# Altium footprint library PTVS3V3S1UTR,115.PcbLib: 3 footprints
Each footprint in its own frame and in the unit in brackets; x right, y up, seen from the top. Pads: shape width x height; smd on the part's side, far side on the other; paste and mask are expansions set on the pad; w line width, h text height; cw(c..) or ccw(c..) is an arc to the next point about the centre after c.
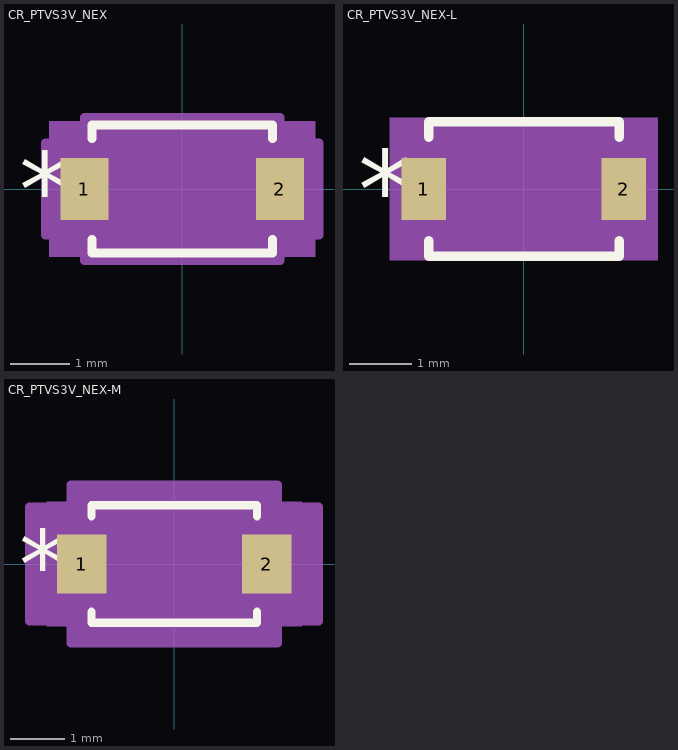
[diagram p0: the footprints below, top view; thin cyan lines are the x and y axes]

## CR_PTVS3V_NEX [mil]
pads (2):
  rect 32x41 smd paste+0 mask+0: 1(-65,0) 2(65,0)
Top Overlay:
  lines w6: -60,-33.6 -60,-42.5 60,-42.5 60,-33.6 ; -60,33.6 -60,42.5 60,42.5 60,33.6
  text "*" at -108.5,-25 h50
Mechanical 5:
  region: 88.5,-45 -88.5,-45 -88.5,45 88.5,45
Mechanical 13:
  lines w1: -55,-18.75 -36.25,-37.5 ; -55,18.75 -36.25,37.5 ; -73,-20.5 -73,20.5 -55,20.5 -55,-20.5 -73,-20.5 ; -55,-37.5 55,-37.5 55,37.5 -55,37.5 -55,-37.5 ; 55,-20.5 55,20.5 73,20.5 73,-20.5 55,-20.5
  text "*" at -57.5,-25 h50
Mechanical 15:
  region: -65,-30.5 -91,-30.5 -91,30.5 -65,30.5 -65,47.5 65,47.5 65,30.5 91,30.5 91,-30.5 65,-30.5 65,-47.5 -65,-47.5
  lines w6: -91,-30.5 -91,30.5 -65,30.5 -65,47.5 65,47.5 65,30.5 91,30.5 91,-30.5 65,-30.5 65,-47.5 -65,-47.5 -65,-30.5 -91,-30.5
3D body "CR_PTVS3V_NEX.step": height 43.27, standoff 0, extent -72.99,-37.48 72.99,37.48

## CR_PTVS3V_NEX-L [mil]
pads (2):
  rect 28x39 smd paste+0 mask+0: 1(-63,0) 2(63,0)
Top Overlay:
  lines w6: -60,-32.6 -60,-42.5 60,-42.5 60,-32.6 ; -60,32.6 -60,42.5 60,42.5 60,32.6
  text "*" at -104.5,-25 h50
Mechanical 5:
  region: 84.5,-45 -84.5,-45 -84.5,45 84.5,45
Mechanical 13:
  lines w1: -55,-18.75 -36.25,-37.5 ; -55,18.75 -36.25,37.5 ; -73,-20.5 -73,20.5 -55,20.5 -55,-20.5 -73,-20.5 ; -55,-37.5 55,-37.5 55,37.5 -55,37.5 -55,-37.5 ; 55,-20.5 55,20.5 73,20.5 73,-20.5 55,-20.5
  text "*" at -57.5,-25 h50
Mechanical 15:
  region: -59,-23.5 -81,-23.5 -81,23.5 -59,23.5 -59,41.5 59,41.5 59,23.5 81,23.5 81,-23.5 59,-23.5 59,-41.5 -59,-41.5
  lines w6: -81,-23.5 -81,23.5 -59,23.5 -59,41.5 59,41.5 59,23.5 81,23.5 81,-23.5 59,-23.5 59,-41.5 -59,-41.5 -59,-23.5 -81,-23.5
3D body "CR_PTVS3V_NEX.step": height 43.27, standoff 0, extent -72.99,-37.48 72.99,37.48

## CR_PTVS3V_NEX-M [mil]
pads (2):
  rect 36x43 smd paste+0 mask+0: 1(-67,0) 2(67,0)
Top Overlay:
  lines w6: -60,-34.6 -60,-42.5 60,-42.5 60,-34.6 ; -60,34.6 -60,42.5 60,42.5 60,34.6
  text "*" at -112.5,-25 h50
Mechanical 5:
  region: 92.5,-45 -92.5,-45 -92.5,45 92.5,45
Mechanical 13:
  lines w1: -55,-18.75 -36.25,-37.5 ; -55,18.75 -36.25,37.5 ; -73,-20.5 -73,20.5 -55,20.5 -55,-20.5 -73,-20.5 ; -55,-37.5 55,-37.5 55,37.5 -55,37.5 -55,-37.5 ; 55,-20.5 55,20.5 73,20.5 73,-20.5 55,-20.5
  text "*" at -57.5,-25 h50
Mechanical 15:
  region: -75,-41.5 -105,-41.5 -105,41.5 -75,41.5 -75,57.5 75,57.5 75,41.5 105,41.5 105,-41.5 75,-41.5 75,-57.5 -75,-57.5
  lines w6: -105,-41.5 -105,41.5 -75,41.5 -75,57.5 75,57.5 75,41.5 105,41.5 105,-41.5 75,-41.5 75,-57.5 -75,-57.5 -75,-41.5 -105,-41.5
3D body "CR_PTVS3V_NEX.step": height 43.27, standoff 0, extent -72.99,-37.48 72.99,37.48